# Altium footprint library HyTechDevices.PCBLIB: 298 footprints (part 9 of 19)
Each footprint in its own frame and in the unit in brackets; x right, y up, seen from the top. Pads: shape width x height; smd on the part's side, far side on the other; paste and mask are expansions set on the pad; w line width, h text height; cw(c..) or ccw(c..) is an arc to the next point about the centre after c.
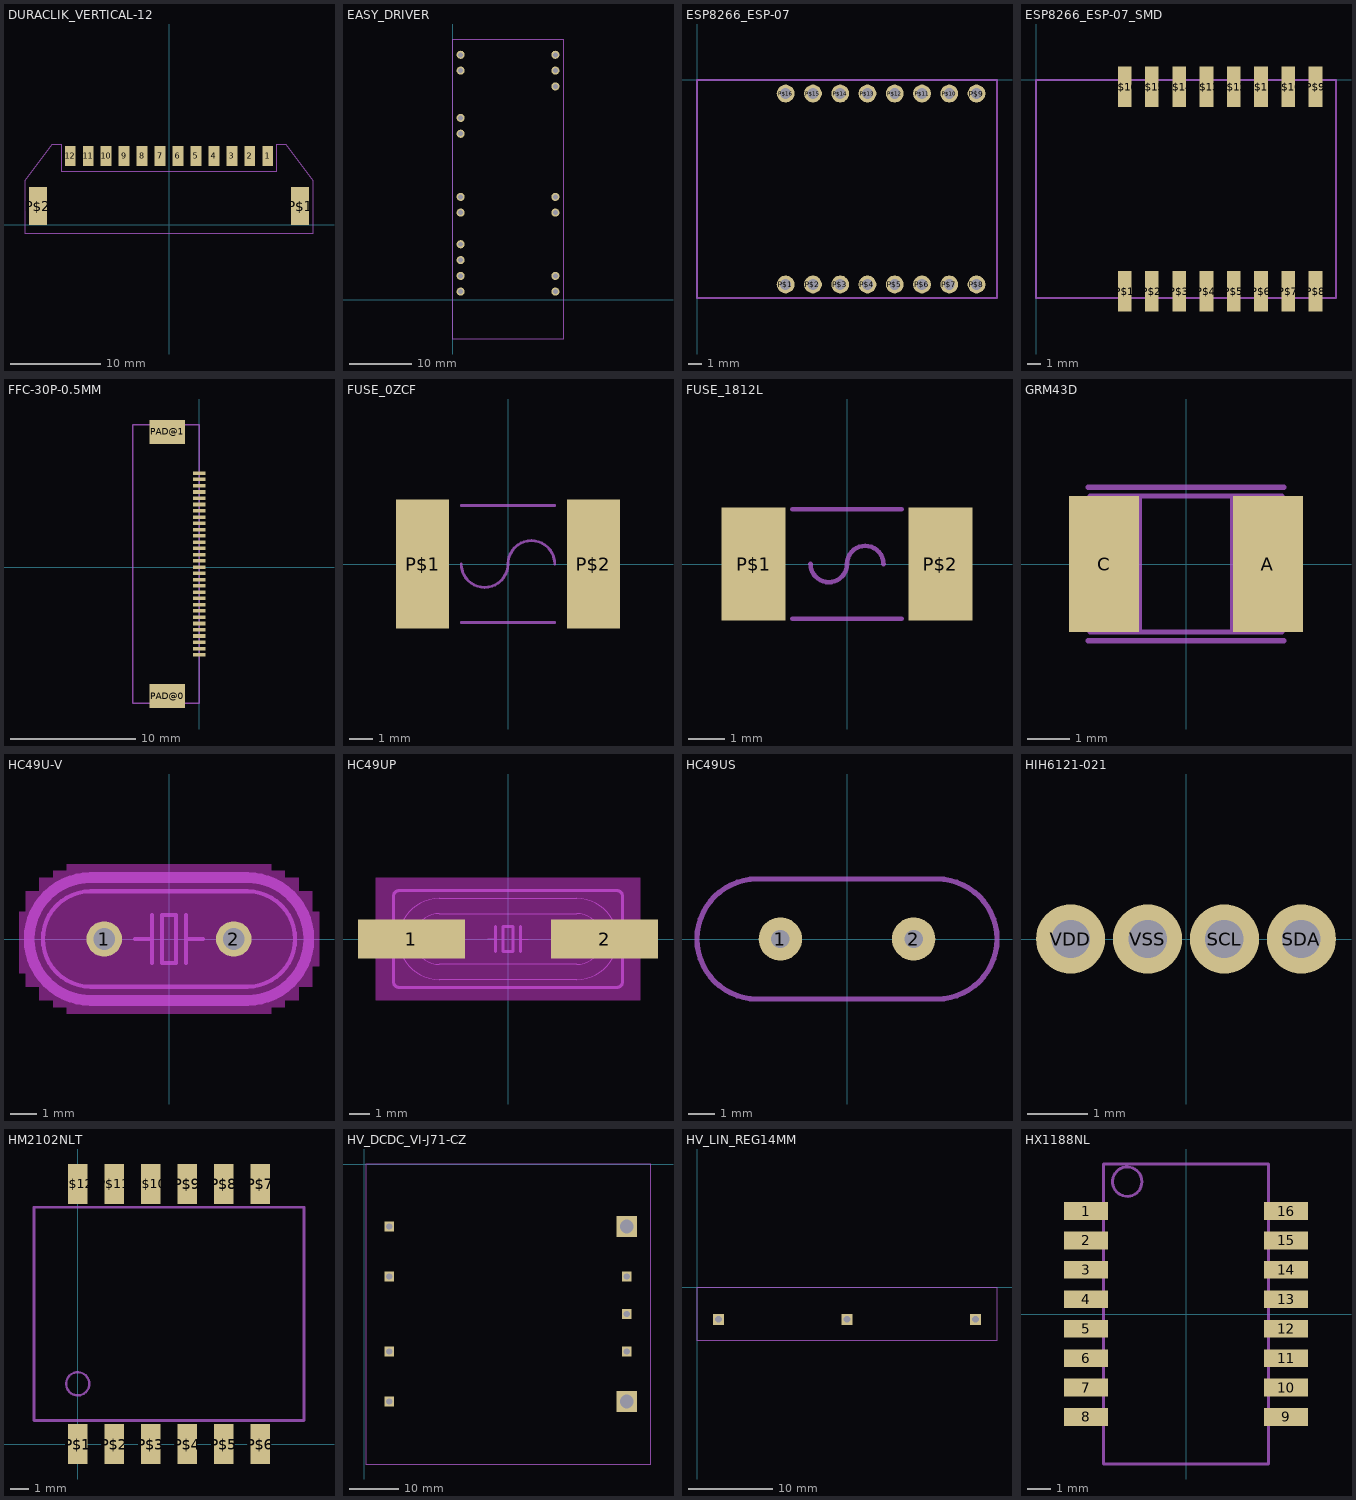
[diagram p8: the footprints below, top view; thin cyan lines are the x and y axes]

## DURACLIK_VERTICAL-12 [mm]
pads (14):
  rect 1.2x2.2 smd: 1(11,7.68) 2(9,7.68) 3(7,7.68) 4(5,7.68) 5(3,7.68) 6(1,7.68) 7(-1,7.68) 8(-3,7.68) 9(-5,7.68) 10(-7,7.68) 11(-9,7.68) 12(-11,7.68)
  rect 2x4.2 smd: P$1(14.6,2.1) P$2(-14.6,2.1)
Mechanical 7:
  lines w0.127: -16,-1 16,-1 16,5 13,9 12,9 12,6 -12,6 -12,9 -13,9 -16,5 -16,-1

## EASY_DRIVER [mil]
pads (17):
  round 51.5 hole 31.5: 5V+(650,150) A+(50,50) A-(50,150) B+(50,250) B-(50,350) DIR(650,1550) EN(50,1050) GND(50,1450) GND1(650,50) GND2(650,1350) M+(50,1550) MS1(650,650) MS2(50,1150) PFD(50,550) RST(50,650) SLP(650,550) STEP(650,1450)
Mechanical 3:
  lines w5: 0,-250 700,-250 700,1650 0,1650 0,-250
  text "EasyDriver" at 400,400 h155

## ESP8266_ESP-07 [mil]
pads (16):
  round 51.5 hole 31.5: P$1(255.91,-590.55) P$2(334.65,-590.55) P$3(413.39,-590.55) P$4(492.13,-590.55) P$5(570.87,-590.55) P$6(649.61,-590.55) P$7(728.35,-590.55) P$8(807.09,-590.55) P$9(807.09,-39.37) P$10(728.35,-39.37) P$11(649.61,-39.37) P$12(570.87,-39.37) P$13(492.13,-39.37) P$14(413.39,-39.37) P$15(334.65,-39.37) P$16(255.91,-39.37)
Mechanical 7:
  lines w5: 0,-629.92 866.14,-629.92 866.14,0 0,0 0,-629.92
  text "ESP8266 ESP-07" at 200,-300 h77.5
  text "WiFi" at 100,-500 h108.5

## ESP8266_ESP-07_SMD [mm]
pads (16):
  rect 1x3 smd: P$1(6.5,-15.5) P$2(8.5,-15.5) P$3(10.5,-15.5) P$4(12.5,-15.5) P$5(14.5,-15.5) P$6(16.5,-15.5) P$7(18.5,-15.5) P$8(20.5,-15.5) P$9(20.5,-0.5) P$10(18.5,-0.5) P$11(16.5,-0.5) P$12(14.5,-0.5) P$13(12.5,-0.5) P$14(10.5,-0.5) P$15(8.5,-0.5) P$16(6.5,-0.5)
Mechanical 7:
  lines w0.127: 0,-16 22,-16 22,0 0,0 0,-16
  text "ESP8266 ESP-07" at 5.08,-7.62 h1.97
  text "WiFi" at 2.54,-12.7 h2.76

## FFC-30P-0.5MM [mm]
pads (32):
  rect 1x0.284 smd: 1(0,7.5) 2(0,7) 3(0,6.5) 4(0,6) 5(0,5.5) 6(0,5) 7(0,4.5) 8(0,4) 9(0,3.5) 10(0,3) 11(0,2.5) 12(0,2) 13(0,1.5) 14(0,1) 15(0,0.5) 16(0,0) 17(0,-0.5) 18(0,-1) 19(0,-1.5) 20(0,-2) 21(0,-2.5) 22(0,-3) 23(0,-3.5) 24(0,-4) 25(0,-4.5) 26(0,-5) 27(0,-5.5) 28(0,-6) 29(0,-6.5) 30(0,-7)
  rect 2.85x1.905 smd: PAD@0(-2.54,-10.302) PAD@1(-2.54,10.802)
Mechanical 7:
  lines w0.127: -5.3,-10.87 0,-10.87 0,11.37 -5.3,11.37 -5.3,-10.87

## FUSE_0ZCF [mil]
pads (2):
  rect 91x221 smd: P$1(-146,0) P$2(146,0)
Mechanical 7:
  lines w5: -80,-100 80,-100 ; -80,0 ccw(c-40,0) -40,-40 ccw(c-40,0) 0,0 cw(c40,0) 40,40 cw(c40,0) 80,0 ; -80,100 80,100

## FUSE_1812L [mil]
pads (2):
  rect 70x124 smd: P$1(-102.5,0) P$2(102.5,0)
Mechanical 7:
  lines w5: -60,-60 60,-60 ; -60,60 60,60 ; -40,0 ccw(c-20,0) -20,-20 ccw(c-20,0) 0,0 cw(c20,0) 20,20 cw(c20,0) 40,0

## GRM43D [mm]
pads (2):
  rect 1.65x3.2 smd: A(1.927,0) C(-1.927,0)
Mechanical 3:
  region: -2.2,-1.6 -2.2,1.6 -1.1,1.6 -1.1,-1.6
  region: 1.1,-1.6 1.1,1.6 2.2,1.6 2.2,-1.6
  lines w0.127: -1.1,-1.6 -2.25,-1.6 -2.25,1.6 -1.1,1.6 ; -1.1,-1.6 1.1,-1.6 ; -1.1,-1.6 -1.1,1.6 ; -1.1,1.6 1.1,1.6 ; 1.1,-1.6 2.25,-1.6 2.25,1.6 1.1,1.6 ; 1.1,-1.6 1.1,1.6
Mechanical 7:
  lines w0.127: -2.3,-1.8 2.3,-1.8 ; -2.3,1.8 2.3,1.8

## HC49U-V [mil]
pads (2):
  round 52 hole 32: 1(-95,0) 2(95,0)
Top Layer keep-out:
  region: -150,-110 -150,110 150,110 150,-110
  region: -170,-100 -170,100 -150,100 -150,-100
  region: -190,-90 -190,90 -170,90 -170,-90
  region: -210,-70 -210,70 -190,70 -190,-70
  region: -220,-50 -220,40 -210,40 -210,-50
  region: 150,-100 150,100 170,100 170,-100
  region: 170,-90 170,90 190,90 190,-90
  region: 190,-70 190,70 210,70 210,-70
  region: 210,-40 210,40 220,40 220,-40
Mechanical 7:
  lines w6: -50,0 -25,0 ; -25,-35 -25,0 ; -25,35 -25,0 ; 25,-35 25,0 ; 25,35 25,0 ; 50,0 25,0 ; -115,-70 115,-70 ccw(c115,0) 115,70 -115,70 ccw(c-115,0) -115,-70 ; -10,-35 10,-35 10,35 -10,35 -10,-35
  lines w16: -115,-90 115,-90 ccw(c115,0) 115,90 -115,90 ccw(c-115,0) -115,-90

## HC49UP [mil]
pads (2):
  rect 210x76 smd: 1(-190,0) 2(190,0)
Top Layer keep-out:
  region: -260,-120 -260,120 260,120 260,-120
Mechanical 3:
  lines w2: -201.15,-45 cw(c-135,0) -201.15,45 ; -156.8,-45 cw(c-135,0) -156.8,45 ; 156.8,-45 ccw(c135,0) 156.8,45 ; 201.15,-45 ccw(c135,0) 201.15,45
  lines w6: -225,-45 -225,-15 ; -225,45 -225,15 ; 225,-45 225,45 ; 225,-15 255,-15 255,15 225,15 ; -225,-15 -225,15 ; -225,-15 -255,-15 -255,15 -225,15
Mechanical 7:
  lines w2: -201.15,-45 ccw(c-135,0) -135,-80 135,-80 ccw(c135,0) 201.14,-45 ; -201.15,45 cw(c-135,-0.01) -135,80 135,80 cw(c135,0) 201.15,45 ; -156.8,-45 ccw(c-135,0.01) -135,-50 135,-50 ccw(c135,0.01) 156.8,-45 ; -156.8,45 cw(c-135,-0.01) -135,50 135,50 cw(c135,-0.01) 156.8,45 ; -40,0 -25,0 ; 25,0 40,0
  lines w6: -225,-45 -225,-85 ccw(c-215,-85) -215,-95 215,-95 ccw(c215,-85) 225,-85 225,-45 ; -225,45 -225,85 cw(c-215,85) -215,95 215,95 cw(c215,85) 225,85 225,45 ; -25,-25 -25,0 -25,25 ; 25,-25 25,0 25,25 ; -10,-25 -10,25 10,25 10,-25 -10,-25

## HC49US [mil]
pads (2):
  round 65 hole 27.56: 1(-100,0) 2(100,0)
Mechanical 7:
  lines w8: -135,-90 135,-90 ccw(c135,0) 135,90 -135,90 ccw(c-135,0) -135,-90

## HIH6121-021 [mil]
pads (4):
  round 45 hole 25: SCL(25,0) SDA(75,0) VDD(-75,0) VSS(-25,0)

## HM2102NLT [mil]
pads (12):
  rect 42x86 smd: P$1(0,0) P$2(78.74,0) P$3(157.48,0) P$4(236.22,0) P$5(314.96,0) P$6(393.7,0) P$7(393.7,561.02) P$8(314.96,561.02) P$9(236.22,561.02) P$10(157.48,561.02) P$11(78.74,561.02) P$12(0,561.02)
Mechanical 7:
  circle w5: c0,130 r25
  lines w6: -94.49,50.79 488.19,50.79 488.19,510.63 -94.49,510.63 -94.49,50.79

## HV_DCDC_VI-J71-CZ [mil]
pads (9):
  rect 76.77x76.77 / inner round 70.93 / far side rect 76.77x76.77 hole 51.18: 1VIN+(200,-500) 2GATEIN(200,-900) 3GATEOUT(200,-1500) 4VIN-(200,-1900) 6SENSE+(2100,-900) 7TRIM(2100,-1200) 8SENSE-(2100,-1500)
  rect 165.36x165.36 / inner round 152.77 / far side rect 165.36x165.36 hole 110.24: 5VOUT+(2100,-500) 9VOUT-(2100,-1900)
Mechanical 7:
  lines w5: 10,-2400 10,0 2290,0 2290,-2400 10,-2400
  text "IN+" at 300,-550 h77.5
  text "Gate In" at 300,-950 h77.5
  text "Gate Out" at 300,-1550 h77.5
  text "IN-" at 300,-1950 h77.5
  text "Out+" at 1950,-500 h77.5
  text "Sense+" at 2000,-900 h77.5
  text "Trim" at 2000,-1200 h77.5
  text "Sense-" at 2000,-1500 h77.5
  text "Out-" at 1950,-1900 h77.5

## HV_LIN_REG14MM [mil]
pads (3):
  rect 51.5x51.5 / inner round 47.58 / far side rect 51.5x51.5 hole 31.5: ADJ(1300,-150) VIN(100,-150) VOUT(700,-150)
Mechanical 7:
  lines w5: 0,-250 1400,-250 1400,0 0,0 0,-250

## HX1188NL [mil]
pads (16):
  rect 75x30 smd: 1(-170,175) 2(-170,125) 3(-170,75) 4(-170,25) 5(-170,-25) 6(-170,-75) 7(-170,-125) 8(-170,-175) 9(170,-175) 10(170,-125) 11(170,-75) 12(170,-25) 13(170,25) 14(170,75) 15(170,125) 16(170,175)
Mechanical 7:
  circle w5: c-100,225 r25
  lines w5: -140,-255 -140,255 140,255 140,-255 -140,-255